# EAGLE library part FBR46RELAY (library jason-test)
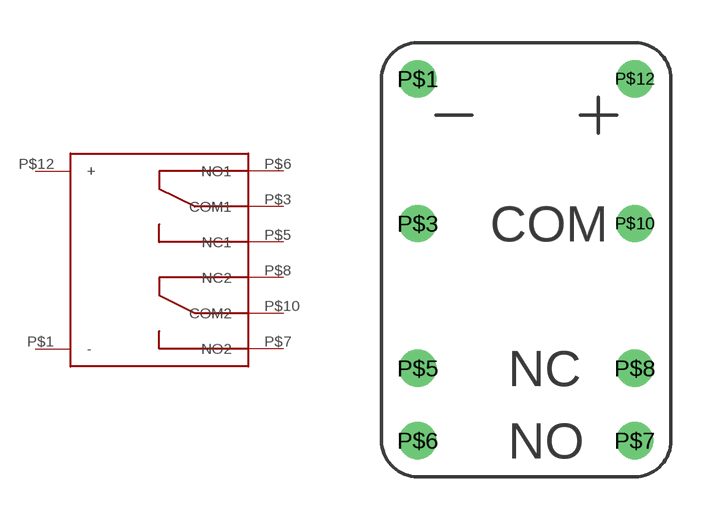
[diagram p7: symbol with the pads of FBR46; footprint FBR46]

Designator prefix -

## FBR46RELAY  [FBR46]
P$1  -
P$3  COM1
P$5  NC1
P$6  NO1
P$7  NO2
P$8  NC2
P$10  COM2
P$12  +

## Footprint FBR46 (pad centres in mm)
FBR46 relay
drill 0.8 round: P$1 0,0; P$3 0,-5.08; P$5 0,-10.16; P$6 0,-12.7; P$7 7.62,-12.7; P$8 7.62,-10.16; P$10 7.62,-5.08; P$12 7.62,0